# Altium footprint library Pwr.PcbLib: 4 footprints
Each footprint in its own frame and in the unit in brackets; x right, y up, seen from the top. Pads: shape width x height; smd on the part's side, far side on the other; paste and mask are expansions set on the pad; w line width, h text height; cw(c..) or ccw(c..) is an arc to the next point about the centre after c.
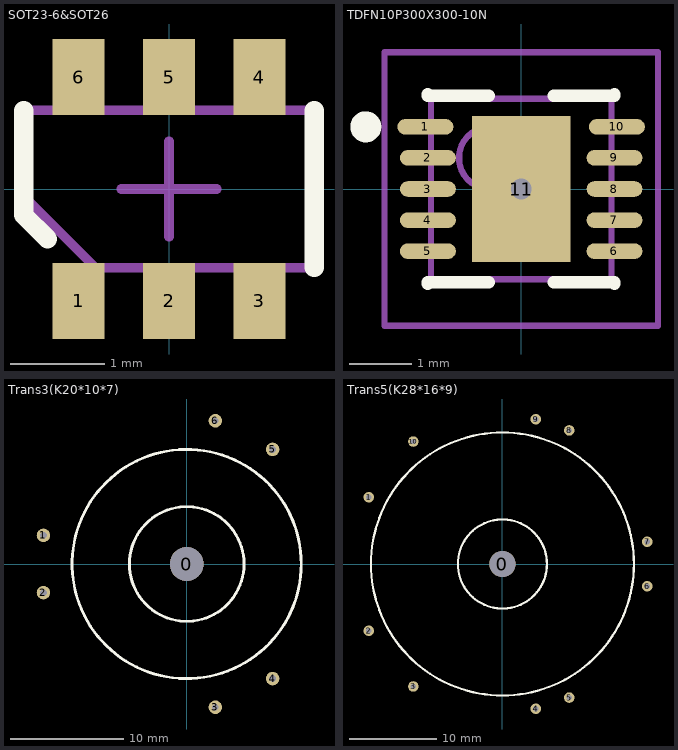
[diagram p0: the footprints below, top view; thin cyan lines are the x and y axes]

## SOT23-6&SOT26 [mil] "http://www.nxp.com/acrobat_download/packages/SOT457.pdf"
pads (6):
  rect 22x32 smd mask+4: 1(-38,-47) 2(0,-47) 3(38,-47) 4(38,47) 5(0,47) 6(-38,47)
Top Overlay:
  lines w8: -61,33 -61,-11 -51,-21 ; 61,-33 61,33
Mechanical 1:
  lines w4: -61,-3 -61,33 61,33 61,-33 -31,-33 -61,-3
Mechanical 15:
  lines w4: -20,0 20,0 ; 0,-20 0,20

## TDFN10P300X300-10N [mm] "TDFN, 10-Leads, Body 3x3mm, Pitch 0,50mm, IPC Medium Density"
height 0.8
pads (11):
  oval 0.9x0.25 smd: 1(-1.54,1) 2(-1.5,0.5) 3(-1.5,0) 4(-1.5,-0.5) 5(-1.5,-1) 6(1.5,-1) 7(1.5,-0.5) 8(1.5,0) 9(1.5,0.5) 10(1.54,1)
  rect 1.58x2.35 smd: 11(0,0)
via 0,0 diameter 0.66 hole 0.33
Top Overlay:
  circle w0.25: c-2.5,1 r0.125
  lines w0.2: -1.5,-1.525 -1.5,-1.5 -0.525,-1.5 ; -1.5,1.525 -1.5,1.5 -0.525,1.5 ; 0.525,-1.5 1.5,-1.5 1.5,-1.525 ; 0.525,1.5 1.5,1.5 1.5,1.525
Mechanical 13:
  circle w0.1: c-0.5,0.5 r0.5
  lines w0.1: -1.45,-1.45 1.45,-1.45 1.45,1.45 -1.45,1.45 -1.45,-1.45
Mechanical 15:
  lines w0.1: -0.5,0 0.5,0 ; 0,-0.5 0,0.5 ; -2.2,-2.2 2.2,-2.2 2.2,2.2 -2.2,2.2 -2.2,-2.2
3D body: height 0.8, standoff 0.02, extent -1.45,-1.45 1.45,1.45

## Trans3(K20*10*7) [mm]
pads (7):
  round 3 hole 3 unplated: 0(0,0)
  round 1.2 hole 0.6: 1(-12.7,2.54) 2(-12.7,-2.54) 3(2.54,-12.7) 4(7.62,-10.16) 5(7.62,10.16) 6(2.54,12.7)
Top Overlay:
  circle w0.254: c0,0 r5.08
  circle w0.254: c0,0 r10.16

## Trans5(K28*16*9) [mm]
pads (11):
  round 3 hole 3 unplated: 0(0,0)
  round 1.2 hole 0.6: 1(-15.24,7.62) 2(-15.24,-7.62) 3(-10.16,-13.97) 4(3.81,-16.51) 5(7.62,-15.24) 6(16.51,-2.54) 7(16.51,2.54) 8(7.62,15.24) 9(3.81,16.51) 10(-10.16,13.97)
Top Overlay:
  circle w0.254: c0,0 r15
  circle w0.254: c0,0 r5.08